# Altium footprint library CN_FUSE_CLIP.PcbLib: 2 footprints
Each footprint in its own frame and in the unit in brackets; x right, y up, seen from the top. Pads: shape width x height; smd on the part's side, far side on the other; paste and mask are expansions set on the pad; w line width, h text height; cw(c..) or ccw(c..) is an arc to the next point about the centre after c.
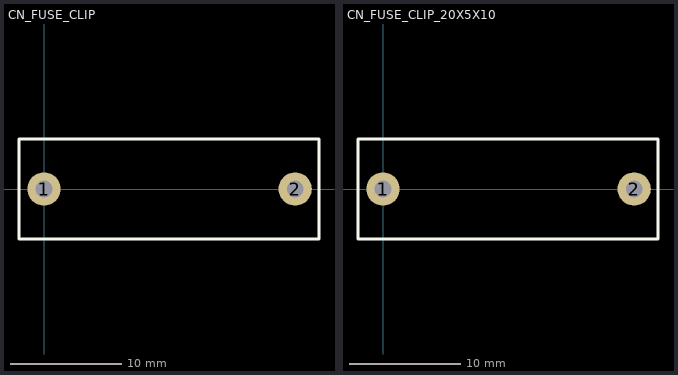
[diagram p0: the footprints below, top view; thin cyan lines are the x and y axes]

## CN_FUSE_CLIP [mm] "FUSE 20x5mm"
pads (2):
  round 3 hole 1.5: 1(0,0) 2(22.606,0)
Top Overlay:
  lines w0.254: -2.25,-4.5 -2.25,4.5 24.75,4.5 24.75,-4.5 -2.25,-4.5
3D body: height 15, standoff 0, extent -2.377,-4.627 24.877,4.627

## CN_FUSE_CLIP_20X5X10 [mm] "FUSE 20x5x10mm"
height 10
pads (2):
  round 3 hole 1.5: 1(0,0) 2(22.606,0)
Top Overlay:
  lines w0.254: -2.25,-4.5 24.75,-4.5 24.75,4.5 -2.25,4.5 -2.25,-4.5
3D body: height 10, standoff 0, extent -2.377,-4.627 24.877,4.627